# EAGLE library part W65C22 (library 6502-shield)
W65C22 I/O Controller Interface IC Interface Adapter
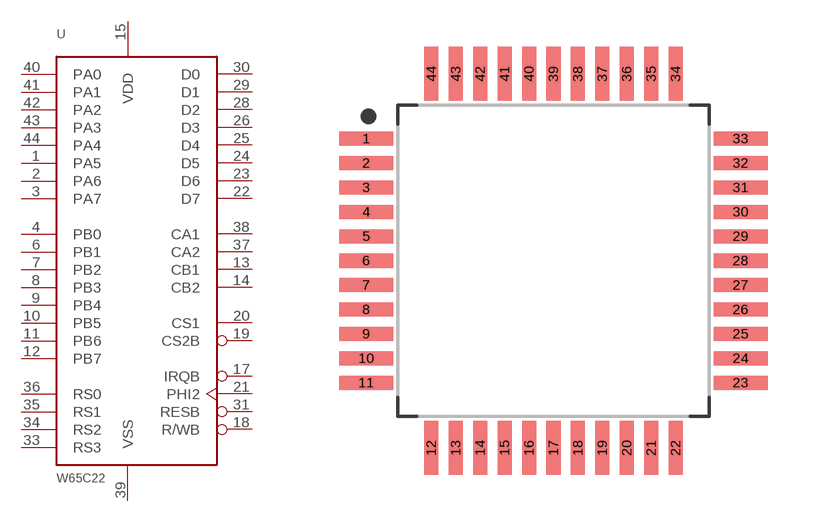
[diagram p0: symbol with the pads of QFP80P1320X1320X270-44N; footprint QFP80P1320X1320X270-44N]

Designator prefix U

## W65C22  [QFP80P1320X1320X270-44N]
1  PA5
2  PA6
3  PA7
4  PB0
6  PB1
7  PB2
8  PB3
9  PB4
10  PB5
11  PB6
12  PB7
13  CB1
14  CB2
15  VDD
17  IRQB
18  R/WB
19  CS2B
20  CS1
21  PHI2
22  D7
23  D6
24  D5
25  D4
26  D3
28  D2
29  D1
30  D0
31  RESB
33  RS3
34  RS2
35  RS1
36  RS0
37  CA2
38  CA1
39  VSS
40  PA0
41  PA1
42  PA2
43  PA3
44  PA4

## Footprint QFP80P1320X1320X270-44N (pad centres in mm)
44-QFP, 0.80 mm pitch, 13.20 mm span, 10.00 X 10.00 X 2.70 mm body 44-pin QFP package with 0.80 mm pitch, 13.20 mm lead span1 X 13.20 mm lead span2 with body size 10.00 X 10.00 X 2.70 mm
smd 1.768 x 0.459: 1 -6.13,4; 2 -6.13,3.2; 3 -6.13,2.4; 4 -6.13,1.6; 5 -6.13,0.8; 6 -6.13,0; 7 -6.13,-0.8; 8 -6.13,-1.6; 9 -6.13,-2.4; 10 -6.13,-3.2; 11 -6.13,-4; 23 6.13,-4; 24 6.13,-3.2; 25 6.13,-2.4; 26 6.13,-1.6; 27 6.13,-0.8; 28 6.13,0; 29 6.13,0.8; 30 6.13,1.6; 31 6.13,2.4; 32 6.13,3.2; 33 6.13,4
smd 0.459 x 1.768: 12 -4,-6.13; 13 -3.2,-6.13; 14 -2.4,-6.13; 15 -1.6,-6.13; 16 -0.8,-6.13; 17 0,-6.13; 18 0.8,-6.13; 19 1.6,-6.13; 20 2.4,-6.13; 21 3.2,-6.13; 22 4,-6.13; 34 4,6.13; 35 3.2,6.13; 36 2.4,6.13; 37 1.6,6.13; 38 0.8,6.13; 39 0,6.13; 40 -0.8,6.13; 41 -1.6,6.13; 42 -2.4,6.13; 43 -3.2,6.13; 44 -4,6.13